# Altium schematic symbol library Schlib1.SchLib: 2 symbols
Pins are listed as number, name and electrical type; pins without a type are passive.

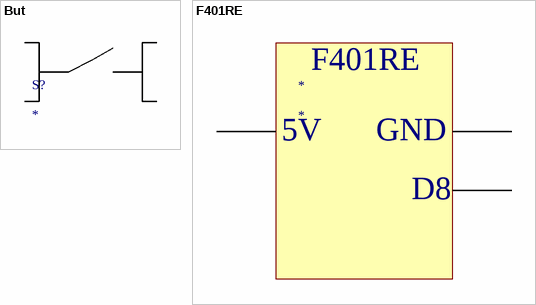
[diagram p0: symbols But to F401RE]

## But
designator S?
footprint Model Name (Footprint not found)
pins: 1, 2, 3, 4

## F401RE
designator *
pins: 5, 6, 7
text: 5V; GND; D8